# Altium footprint library DIP.PcbLib: 5 footprints
Each footprint in its own frame and in the unit in brackets; x right, y up, seen from the top. Pads: shape width x height; smd on the part's side, far side on the other; paste and mask are expansions set on the pad; w line width, h text height; cw(c..) or ccw(c..) is an arc to the next point about the centre after c.
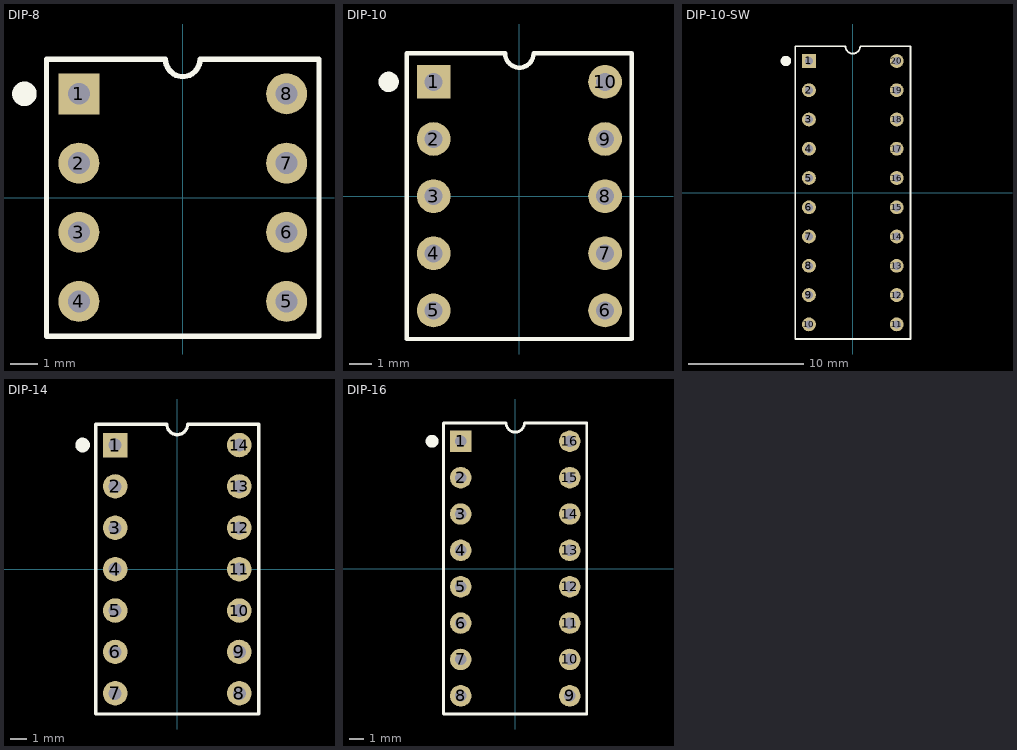
[diagram p0: the footprints below, top view; thin cyan lines are the x and y axes]

## DIP-8 [mm]
pads (8):
  rect 1.5x1.5 hole 0.8: 1(-3.81,3.81)
  round 1.5 hole 0.8: 2(-3.81,1.27) 3(-3.81,-1.27) 4(-3.81,-3.81) 5(3.81,-3.81) 6(3.81,-1.27) 7(3.81,1.27) 8(3.81,3.81)
Top Overlay:
  circle w0.5: c-5.81,3.81 r0.2
  lines w0.2: -5,-5.08 -5,5.08 -0.635,5.08 ccw(c0,5.08) 0.635,5.08 5,5.08 5,-5.08 -5,-5.08
3D body "DIP-8.STEP": height 4.3, standoff -2.88, extent -4,-5.08 3.87,5.08

## DIP-10 [mm]
pads (10):
  rect 1.5x1.5 hole 0.8: 1(-3.81,5.08)
  round 1.5 hole 0.8: 2(-3.81,2.54) 3(-3.81,0) 4(-3.81,-2.54) 5(-3.81,-5.08) 6(3.81,-5.08) 7(3.81,-2.54) 8(3.81,0) 9(3.81,2.54) 10(3.81,5.08)
Top Overlay:
  circle w0.5: c-5.81,5.08 r0.2
  lines w0.2: -5,-6.35 5,-6.35 5,6.35 0.635,6.35 cw(c0,6.35) -0.635,6.35 -5,6.35 -5,-6.35
3D body "DIP-10.STEP": height 4.3, standoff -2.88, extent -3.935,-6.4 3.935,6.3

## DIP-10-SW [mm]
pads (20):
  rect 1.2x1.2 hole 0.7: 1(-3.81,11.43)
  round 1.2 hole 0.7: 2(-3.81,8.89) 3(-3.81,6.35) 4(-3.81,3.81) 5(-3.81,1.27) 6(-3.81,-1.27) 7(-3.81,-3.81) 8(-3.81,-6.35) 9(-3.81,-8.89) 10(-3.81,-11.43) 11(3.81,-11.43) 12(3.81,-8.89) 13(3.81,-6.35) 14(3.81,-3.81) 15(3.81,-1.27) 16(3.81,1.27) 17(3.81,3.81) 18(3.81,6.35) 19(3.81,8.89) 20(3.81,11.43)
Top Overlay:
  circle w0.5: c-5.81,11.43 r0.2
  lines w0.15: -5,-12.7 -5,12.7 -0.635,12.7 ccw(c0,12.7) 0.635,12.7 5,12.7 5,-12.7 -5,-12.7
3D body "DIP_SW-10P-T.stp": height 6.8, standoff -2.5, extent -4.95,-13.46 4.95,13.46

## DIP-14 [mm]
pads (14):
  rect 1.5x1.5 hole 0.8: 1(-3.81,7.62)
  round 1.5 hole 0.8: 2(-3.81,5.08) 3(-3.81,2.54) 4(-3.81,0) 5(-3.81,-2.54) 6(-3.81,-5.08) 7(-3.81,-7.62) 8(3.81,-7.62) 9(3.81,-5.08) 10(3.81,-2.54) 11(3.81,0) 12(3.81,2.54) 13(3.81,5.08) 14(3.81,7.62)
Top Overlay:
  circle w0.5: c-5.81,7.62 r0.2
  lines w0.2: -5,-8.89 5,-8.89 5,8.89 0.635,8.89 cw(c0,8.89) -0.635,8.89 -5,8.89 -5,-8.89
3D body "DIP-14.STEP": height 4.3, standoff -2.88, extent -3.935,-8.88 3.935,8.9

## DIP-16 [mm]
pads (16):
  rect 1.5x1.5 hole 0.8: 1(-3.81,8.89)
  round 1.5 hole 0.8: 2(-3.81,6.35) 3(-3.81,3.81) 4(-3.81,1.27) 5(-3.81,-1.27) 6(-3.81,-3.81) 7(-3.81,-6.35) 8(-3.81,-8.89) 9(3.81,-8.89) 10(3.81,-6.35) 11(3.81,-3.81) 12(3.81,-1.27) 13(3.81,1.27) 14(3.81,3.81) 15(3.81,6.35) 16(3.81,8.89)
Top Overlay:
  circle w0.5: c-5.81,8.89 r0.2
  lines w0.2: -5,-10.16 5,-10.16 5,10.16 0.635,10.16 cw(c0,10.16) -0.635,10.16 -5,10.16 -5,-10.16
3D body "DIP-16..STEP": height 4.3, standoff -2.88, extent -3.885,-10.17 3.985,10.15